# EAGLE library part 1841513 (library ruark2)
4x2 Position Wire to Board Terminal Block Horizontal with Board 0.138" (3.50mm) Through Hole. Compatible with Cixi Kefa Elec KF207RH-3.5-2*4P
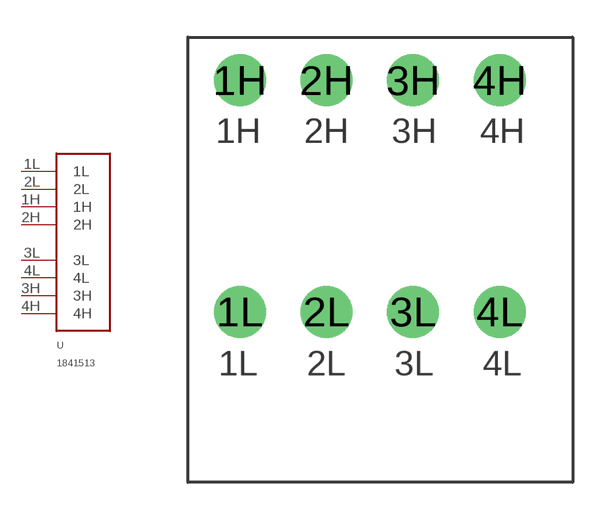
[diagram p187: symbol with the pads of 1841513; footprint 1841513]

Designator prefix -

## 1841513 (PARTNO: 277-10317-ND)  [1841513]
1H  1H
1L  1L
2H  2H
2L  2L
3H  3H
3L  3L
4H  4H
4L  4L

## Footprint 1841513 (pad centres in mm)
drill 1.4: 1H 2.1,16.25; 1L 2.1,6.9; 2H 5.6,16.25; 2L 5.6,6.9; 3H 9.1,16.25; 3L 9.1,6.9; 4H 12.6,16.25; 4L 12.6,6.9